# Altium footprint library HMC539ALP3E.PcbLib: 3 footprints
Each footprint in its own frame and in the unit in brackets; x right, y up, seen from the top. Pads: shape width x height; smd on the part's side, far side on the other; paste and mask are expansions set on the pad; w line width, h text height; cw(c..) or ccw(c..) is an arc to the next point about the centre after c.
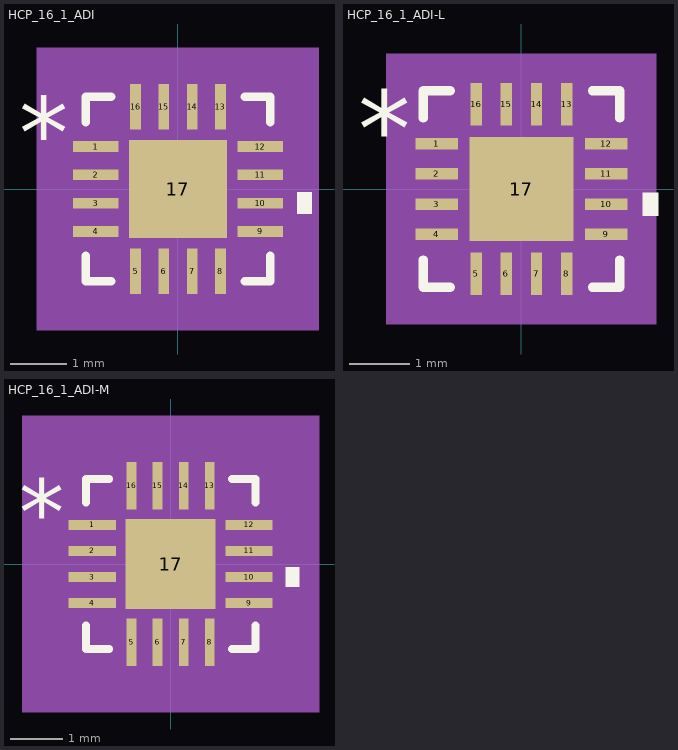
[diagram p0: the footprints below, top view; thin cyan lines are the x and y axes]

## HCP_16_1_ADI [mm]
pads (17):
  rect 0.805x0.189 smd paste+0 mask+0: 1(-1.452,0.75) 2(-1.452,0.25) 3(-1.452,-0.25) 4(-1.452,-0.75) 9(1.452,-0.75) 10(1.452,-0.25) 11(1.452,0.25) 12(1.452,0.75)
  rect 0.189x0.805 smd paste+0 mask+0: 5(-0.75,-1.452) 6(-0.25,-1.452) 7(0.25,-1.452) 8(0.75,-1.452) 13(0.75,1.452) 14(0.25,1.452) 15(-0.25,1.452) 16(-0.75,1.452)
  rect 1.725x1.725 smd paste+0 mask+0: 17(0,0)
Top Overlay:
  region: 2.109,-0.059 2.363,-0.059 2.363,-0.44 2.109,-0.44
  lines w0.152: -1.627,-1.177 -1.627,-1.627 -1.177,-1.627 ; -1.627,1.177 -1.627,1.627 -1.177,1.627 ; 1.177,-1.627 1.627,-1.627 1.627,-1.177 ; 1.177,1.627 1.627,1.627 1.627,1.177
  text "*" at -2.807,0.365 h1.27
Mechanical 5:
  region: 2.49,-2.49 -2.49,-2.49 -2.49,2.49 2.49,2.49
Mechanical 13:
  lines w0.025: -1.5,0.23 -0.23,1.5 ; -1.5,-1.5 1.5,-1.5 ; -1.5,-1.5 -1.5,1.5 ; -1.5,-1.5 -1.5,-1.5 ; -1.5,1.5 1.5,1.5 ; -1.5,1.5 -1.5,1.5 ; 1.5,-1.5 1.5,-1.5 ; 1.5,-1.5 1.5,1.5 ; 1.5,1.5 1.5,1.5 ; -1.55,-0.87 -1.55,-0.63 -1.5,-0.63 -1.5,-0.87 -1.55,-0.87 ; -1.55,-0.37 -1.55,-0.13 -1.5,-0.13 -1.5,-0.37 -1.55,-0.37 ; -1.55,0.13 -1.55,0.37 -1.5,0.37 -1.5,0.13 -1.55,0.13 ; -1.55,0.63 -1.55,0.87 -1.5,0.87 -1.5,0.63 -1.55,0.63 ; -0.87,-1.55 -0.87,-1.5 -0.63,-1.5 -0.63,-1.55 -0.87,-1.55 ; -0.87,1.5 -0.63,1.5 -0.63,1.55 -0.87,1.55 -0.87,1.5 ; -0.37,-1.55 -0.37,-1.5 -0.13,-1.5 -0.13,-1.55 -0.37,-1.55 ; -0.37,1.5 -0.13,1.5 -0.13,1.55 -0.37,1.55 -0.37,1.5 ; 0.13,-1.55 0.13,-1.5 0.37,-1.5 0.37,-1.55 0.13,-1.55 ; 0.13,1.5 0.37,1.5 0.37,1.55 0.13,1.55 0.13,1.5 ; 0.63,-1.55 0.63,-1.5 0.87,-1.5 0.87,-1.55 0.63,-1.55 ; 0.63,1.5 0.87,1.5 0.87,1.55 0.63,1.55 0.63,1.5 ; 1.5,-0.87 1.5,-0.63 1.55,-0.63 1.55,-0.87 1.5,-0.87 ; 1.5,-0.37 1.5,-0.13 1.55,-0.13 1.55,-0.37 1.5,-0.37 ; 1.5,0.13 1.5,0.37 1.55,0.37 1.55,0.13 1.5,0.13 ; 1.5,0.63 1.5,0.87 1.55,0.87 1.55,0.63 1.5,0.63
  text "*" at -1.368,0.365 h1.27
Mechanical 15:
  region: -1.099,-1.754 -1.754,-1.754 -1.754,-1.099 -2.109,-1.099 -2.109,1.099 -1.754,1.099 -1.754,1.754 -1.099,1.754 -1.099,2.109 1.099,2.109 1.099,1.754 1.754,1.754 1.754,1.099 2.109,1.099 2.109,-1.099 1.754,-1.099 1.754,-1.754 1.099,-1.754 1.099,-2.109 -1.099,-2.109
  lines w0.152: -2.109,-1.099 -1.754,-1.099 -1.754,-1.754 -1.099,-1.754 -1.099,-2.109 1.099,-2.109 1.099,-1.754 1.754,-1.754 1.754,-1.099 2.109,-1.099 2.109,1.099 1.754,1.099 1.754,1.754 1.099,1.754 1.099,2.109 -1.099,2.109 -1.099,1.754 -1.754,1.754 -1.754,1.099 -2.109,1.099 -2.109,-1.099
3D body "HCP_16_1_ADI.step": height 1, standoff 0, extent -1.55,-1.55 1.55,1.55

## HCP_16_1_ADI-L [mm]
pads (17):
  rect 0.703x0.189 smd paste+0 mask+0: 1(-1.402,0.75) 2(-1.402,0.25) 3(-1.402,-0.25) 4(-1.402,-0.75) 9(1.402,-0.75) 10(1.402,-0.25) 11(1.402,0.25) 12(1.402,0.75)
  rect 0.189x0.703 smd paste+0 mask+0: 5(-0.75,-1.402) 6(-0.25,-1.402) 7(0.25,-1.402) 8(0.75,-1.402) 13(0.75,1.402) 14(0.25,1.402) 15(-0.25,1.402) 16(-0.75,1.402)
  rect 1.725x1.725 smd paste+0 mask+0: 17(0,0)
Top Overlay:
  region: 2.007,-0.059 2.261,-0.059 2.261,-0.44 2.007,-0.44
  lines w0.152: -1.627,-1.177 -1.627,-1.627 -1.177,-1.627 ; -1.627,1.177 -1.627,1.627 -1.177,1.627 ; 1.177,-1.627 1.627,-1.627 1.627,-1.177 ; 1.177,1.627 1.627,1.627 1.627,1.177
  text "*" at -2.706,0.365 h1.27
Mechanical 5:
  region: 2.236,-2.236 -2.236,-2.236 -2.236,2.236 2.236,2.236
Mechanical 13:
  lines w0.025: -1.5,0.23 -0.23,1.5 ; -1.5,-1.5 1.5,-1.5 ; -1.5,-1.5 -1.5,1.5 ; -1.5,-1.5 -1.5,-1.5 ; -1.5,1.5 1.5,1.5 ; -1.5,1.5 -1.5,1.5 ; 1.5,-1.5 1.5,-1.5 ; 1.5,-1.5 1.5,1.5 ; 1.5,1.5 1.5,1.5 ; -1.55,-0.87 -1.55,-0.63 -1.5,-0.63 -1.5,-0.87 -1.55,-0.87 ; -1.55,-0.37 -1.55,-0.13 -1.5,-0.13 -1.5,-0.37 -1.55,-0.37 ; -1.55,0.13 -1.55,0.37 -1.5,0.37 -1.5,0.13 -1.55,0.13 ; -1.55,0.63 -1.55,0.87 -1.5,0.87 -1.5,0.63 -1.55,0.63 ; -0.87,-1.55 -0.87,-1.5 -0.63,-1.5 -0.63,-1.55 -0.87,-1.55 ; -0.87,1.5 -0.63,1.5 -0.63,1.55 -0.87,1.55 -0.87,1.5 ; -0.37,-1.55 -0.37,-1.5 -0.13,-1.5 -0.13,-1.55 -0.37,-1.55 ; -0.37,1.5 -0.13,1.5 -0.13,1.55 -0.37,1.55 -0.37,1.5 ; 0.13,-1.55 0.13,-1.5 0.37,-1.5 0.37,-1.55 0.13,-1.55 ; 0.13,1.5 0.37,1.5 0.37,1.55 0.13,1.55 0.13,1.5 ; 0.63,-1.55 0.63,-1.5 0.87,-1.5 0.87,-1.55 0.63,-1.55 ; 0.63,1.5 0.87,1.5 0.87,1.55 0.63,1.55 0.63,1.5 ; 1.5,-0.87 1.5,-0.63 1.55,-0.63 1.55,-0.87 1.5,-0.87 ; 1.5,-0.37 1.5,-0.13 1.55,-0.13 1.55,-0.37 1.5,-0.37 ; 1.5,0.13 1.5,0.37 1.55,0.37 1.55,0.13 1.5,0.13 ; 1.5,0.63 1.5,0.87 1.55,0.87 1.55,0.63 1.5,0.63
  text "*" at -1.368,0.365 h1.27
Mechanical 15:
  region: -0.946,-1.602 -1.602,-1.602 -1.602,-0.946 -1.855,-0.946 -1.855,0.946 -1.602,0.946 -1.602,1.602 -0.946,1.602 -0.946,1.855 0.946,1.855 0.946,1.602 1.602,1.602 1.602,0.946 1.855,0.946 1.855,-0.946 1.602,-0.946 1.602,-1.602 0.946,-1.602 0.946,-1.855 -0.946,-1.855
  lines w0.152: -1.855,-0.946 -1.602,-0.946 -1.602,-1.602 -0.946,-1.602 -0.946,-1.855 0.946,-1.855 0.946,-1.602 1.602,-1.602 1.602,-0.946 1.855,-0.946 1.855,0.946 1.602,0.946 1.602,1.602 0.946,1.602 0.946,1.855 -0.946,1.855 -0.946,1.602 -1.602,1.602 -1.602,0.946 -1.855,0.946 -1.855,-0.946
3D body "HCP_16_1_ADI.step": height 1, standoff 0, extent -1.55,-1.55 1.55,1.55

## HCP_16_1_ADI-M [mm]
pads (17):
  rect 0.906x0.189 smd paste+0 mask+0: 1(-1.503,0.75) 2(-1.503,0.25) 3(-1.503,-0.25) 4(-1.503,-0.75) 9(1.503,-0.75) 10(1.503,-0.25) 11(1.503,0.25) 12(1.503,0.75)
  rect 0.189x0.906 smd paste+0 mask+0: 5(-0.75,-1.503) 6(-0.25,-1.503) 7(0.25,-1.503) 8(0.75,-1.503) 13(0.75,1.503) 14(0.25,1.503) 15(-0.25,1.503) 16(-0.75,1.503)
  rect 1.725x1.725 smd paste+0 mask+0: 17(0,0)
Top Overlay:
  region: 2.21,-0.059 2.464,-0.059 2.464,-0.44 2.21,-0.44
  lines w0.152: -1.627,-1.177 -1.627,-1.627 -1.177,-1.627 ; -1.627,1.177 -1.627,1.627 -1.177,1.627 ; 1.177,-1.627 1.627,-1.627 1.627,-1.177 ; 1.177,1.627 1.627,1.627 1.627,1.177
  text "*" at -2.909,0.365 h1.27
Mechanical 5:
  region: 2.845,-2.845 -2.845,-2.845 -2.845,2.845 2.845,2.845
Mechanical 13:
  lines w0.025: -1.5,0.23 -0.23,1.5 ; -1.5,-1.5 1.5,-1.5 ; -1.5,-1.5 -1.5,1.5 ; -1.5,-1.5 -1.5,-1.5 ; -1.5,1.5 1.5,1.5 ; -1.5,1.5 -1.5,1.5 ; 1.5,-1.5 1.5,-1.5 ; 1.5,-1.5 1.5,1.5 ; 1.5,1.5 1.5,1.5 ; -1.55,-0.87 -1.55,-0.63 -1.5,-0.63 -1.5,-0.87 -1.55,-0.87 ; -1.55,-0.37 -1.55,-0.13 -1.5,-0.13 -1.5,-0.37 -1.55,-0.37 ; -1.55,0.13 -1.55,0.37 -1.5,0.37 -1.5,0.13 -1.55,0.13 ; -1.55,0.63 -1.55,0.87 -1.5,0.87 -1.5,0.63 -1.55,0.63 ; -0.87,-1.55 -0.87,-1.5 -0.63,-1.5 -0.63,-1.55 -0.87,-1.55 ; -0.87,1.5 -0.63,1.5 -0.63,1.55 -0.87,1.55 -0.87,1.5 ; -0.37,-1.55 -0.37,-1.5 -0.13,-1.5 -0.13,-1.55 -0.37,-1.55 ; -0.37,1.5 -0.13,1.5 -0.13,1.55 -0.37,1.55 -0.37,1.5 ; 0.13,-1.55 0.13,-1.5 0.37,-1.5 0.37,-1.55 0.13,-1.55 ; 0.13,1.5 0.37,1.5 0.37,1.55 0.13,1.55 0.13,1.5 ; 0.63,-1.55 0.63,-1.5 0.87,-1.5 0.87,-1.55 0.63,-1.55 ; 0.63,1.5 0.87,1.5 0.87,1.55 0.63,1.55 0.63,1.5 ; 1.5,-0.87 1.5,-0.63 1.55,-0.63 1.55,-0.87 1.5,-0.87 ; 1.5,-0.37 1.5,-0.13 1.55,-0.13 1.55,-0.37 1.5,-0.37 ; 1.5,0.13 1.5,0.37 1.55,0.37 1.55,0.13 1.5,0.13 ; 1.5,0.63 1.5,0.87 1.55,0.87 1.55,0.63 1.5,0.63
  text "*" at -1.368,0.365 h1.27
Mechanical 15:
  region: -1.353,-2.008 -2.008,-2.008 -2.008,-1.353 -2.464,-1.353 -2.464,1.353 -2.008,1.353 -2.008,2.008 -1.353,2.008 -1.353,2.464 1.353,2.464 1.353,2.008 2.008,2.008 2.008,1.353 2.464,1.353 2.464,-1.353 2.008,-1.353 2.008,-2.008 1.353,-2.008 1.353,-2.464 -1.353,-2.464
  lines w0.152: -2.464,-1.353 -2.008,-1.353 -2.008,-2.008 -1.353,-2.008 -1.353,-2.464 1.353,-2.464 1.353,-2.008 2.008,-2.008 2.008,-1.353 2.464,-1.353 2.464,1.353 2.008,1.353 2.008,2.008 1.353,2.008 1.353,2.464 -1.353,2.464 -1.353,2.008 -2.008,2.008 -2.008,1.353 -2.464,1.353 -2.464,-1.353
3D body "HCP_16_1_ADI.step": height 1, standoff 0, extent -1.55,-1.55 1.55,1.55